# Altium footprint library QFN16_3x3.PcbLib: 1 footprints
Each footprint in its own frame and in the unit in brackets; x right, y up, seen from the top. Pads: shape width x height; smd on the part's side, far side on the other; paste and mask are expansions set on the pad; w line width, h text height; cw(c..) or ccw(c..) is an arc to the next point about the centre after c.
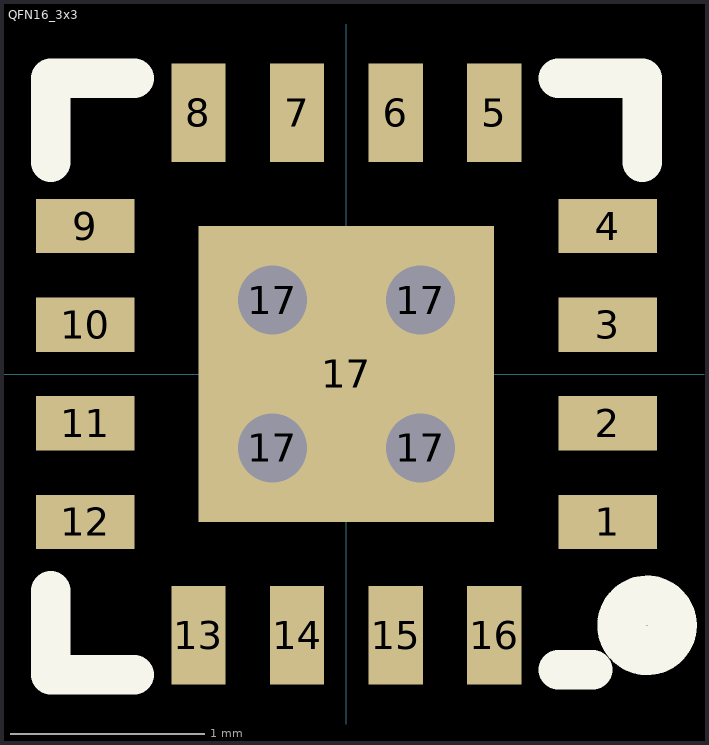
[diagram p0: the footprint, top view; thin cyan lines are the x and y axes]

## QFN16_3x3 [mil]
pads (21):
  rect 20x11 smd: 1(53,-30) 2(53,-10) 3(53,10) 4(53,30) 9(-53,30) 10(-53,10) 11(-53,-10) 12(-53,-30)
  rect 11x20 smd: 5(30,53) 6(10,53) 7(-10,53) 8(-30,53) 13(-30,-53) 14(-10,-53) 15(10,-53) 16(30,-53)
  round 18 hole 14: 17(-15,15) 17(-15,-15) 17(15,15) 17(15,-15)
  rect 60x60 smd: 17(0,0)
Top Overlay:
  circle w10: c61,-51 r5.1
  lines w8: -60,-44 -60,-61 -43,-61 ; -60,43 -60,60 -43,60 ; 43,-60 50,-60 ; 43,60 60,60 60,43
3D body: height 35.43, standoff 0, extent -59.76,-59.88 60,59.88